# EAGLE library part PIC16F873A (library myLib)
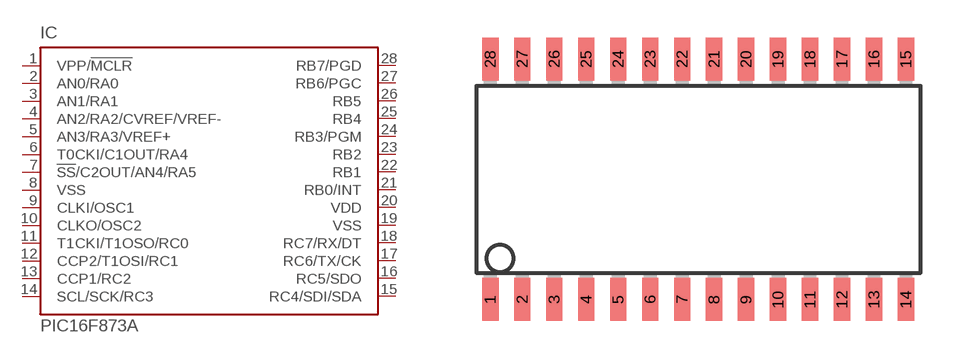
[diagram p0: symbol with the pads of SO28W; footprint SO28W]

Designator prefix IC

## PIC16F873ASO  [SO28W]
1  VPP/!MCLR!  in
2  AN0/RA0
3  AN1/RA1
4  AN2/RA2/CVREF/VREF-
5  AN3/RA3/VREF+
6  T0CKI/C1OUT/RA4
7  !SS!/C2OUT/AN4/RA5
8  VSS  pwr
9  CLKI/OSC1
10  CLKO/OSC2
11  T1CKI/T1OSO/RC0
12  CCP2/T1OSI/RC1
13  CCP1/RC2
14  SCL/SCK/RC3
15  RC4/SDI/SDA
16  RC5/SDO
17  RC6/TX/CK
18  RC7/RX/DT
19  VSS  pwr
20  VDD  pwr
21  RB0/INT
22  RB1
23  RB2
24  RB3/PGM
25  RB4
26  RB5
27  RB6/PGC
28  RB7/PGD

## Footprint SO28W (pad centres in mm)
28-Lead Plastic Small Outline (SO) Wide, 300 mil Body (SOIC) Source: http://ww1.microchip.com/downloads/en/devicedoc/39632c.pdf
smd 0.65 x 1.7: 1 -7.62,-4.78; 2 -6.35,-4.78; 3 -5.08,-4.78; 4 -3.81,-4.78; 5 -2.54,-4.78; 6 -1.27,-4.78; 7 0,-4.78; 8 1.27,-4.78; 9 2.54,-4.78; 10 3.81,-4.78; 11 5.08,-4.78; 12 6.35,-4.78; 13 7.62,-4.78; 14 8.89,-4.78; 15 8.89,4.78; 16 7.62,4.78; 17 6.35,4.78; 18 5.08,4.78; 19 3.81,4.78; 20 2.54,4.78; 21 1.27,4.78; 22 0,4.78; 23 -1.27,4.78; 24 -2.54,4.78; 25 -3.81,4.78; 26 -5.08,4.78; 27 -6.35,4.78; 28 -7.62,4.78